# EAGLE library part 0371-131-X217_PAD (library loranger)
QFN 13 LEAD SOCKET
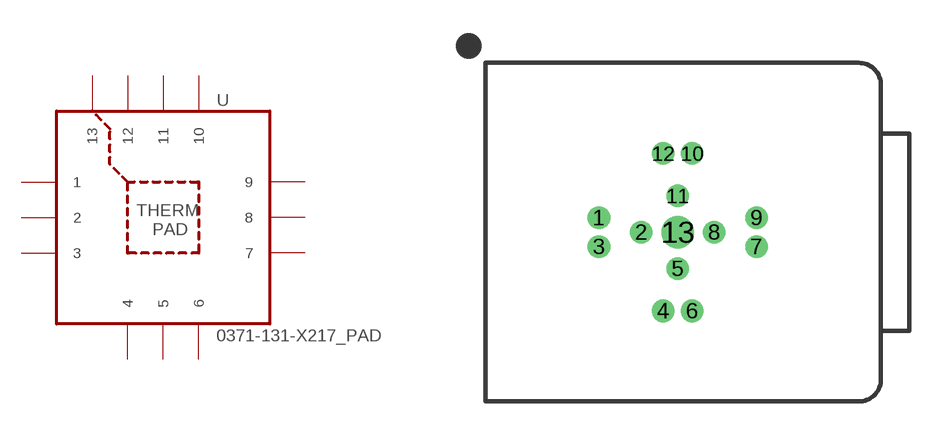
[diagram p1: symbol with the pads of 0371-131-X217; footprint 0371-131-X217]

Designator prefix U

## 0371-131-X217_PAD  [0371-131-X217]
1  1
2  2
3  3
4  4
5  5
6  6
7  7
8  8
9  9
10  10
11  11
12  12
13  13

## Footprint 0371-131-X217 (pad centres in mm)
13 LEAD 3X2 QFN SOCKET
drill 0.508: 1 -3.543,0.65; 2 -1.638,0; 3 -3.543,-0.65; 4 -0.65,-3.543; 5 0,-1.638; 6 0.65,-3.543; 7 3.543,-0.65; 8 1.638,0; 9 3.543,0.65; 10 0.65,3.543; 11 0,1.638; 12 -0.65,3.543
drill 0.965: 13 0,0